# EAGLE library part WIZ550IO_V1.0 (library WIZ550io_V1.0)
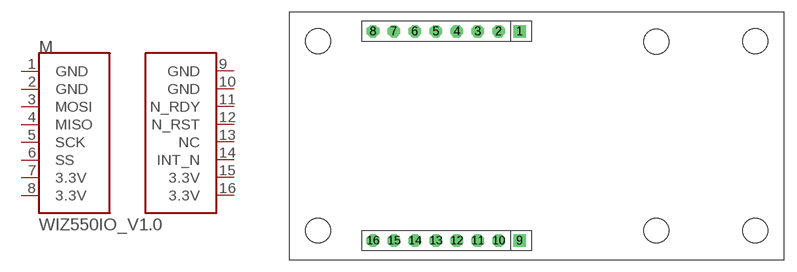
[diagram p0: symbol with the pads of WIZ550IO_V1.0; footprint WIZ550IO_V1.0]

Designator prefix M

## WIZ550IO_V1.0  [WIZ550IO_V1.0]
1  GND  pas
2  GND  pas
3  MOSI  pas
4  MISO  pas
5  SCK  pas
6  SS  pas
7  3.3V  pas
8  3.3V  pas
9  GND  pas
10  GND  pas
11  N_RDY  pas
12  N_RST  pas
13  NC  pas
14  INT_N  pas
15  3.3V  pas
16  3.3V  pas

## Footprint WIZ550IO_V1.0 (pad centres in mm)
drill 1.016 square: 1 -2.06,12.7; 9 -2.06,-12.7
drill 1.016 octagon: 2 -4.6,12.7; 3 -7.14,12.7; 4 -9.68,12.7; 5 -12.22,12.7; 6 -14.76,12.7; 7 -17.3,12.7; 8 -19.84,12.7; 10 -4.6,-12.7; 11 -7.14,-12.7; 12 -9.68,-12.7; 13 -12.22,-12.7; 14 -14.76,-12.7; 15 -17.3,-12.7; 16 -19.84,-12.7
hole 3 at -26.5,11.5
hole 3 at -26.5,-11.5
hole 3 at 26.5,11.5
hole 3 at 26.5,-11.5
hole 3 at 14.5,11.43
hole 3 at 14.5,-11.5